# Altium schematic symbol library Capacitors.SchLib: 18 symbols
Pins are listed as number, name and electrical type; pins without a type are passive.

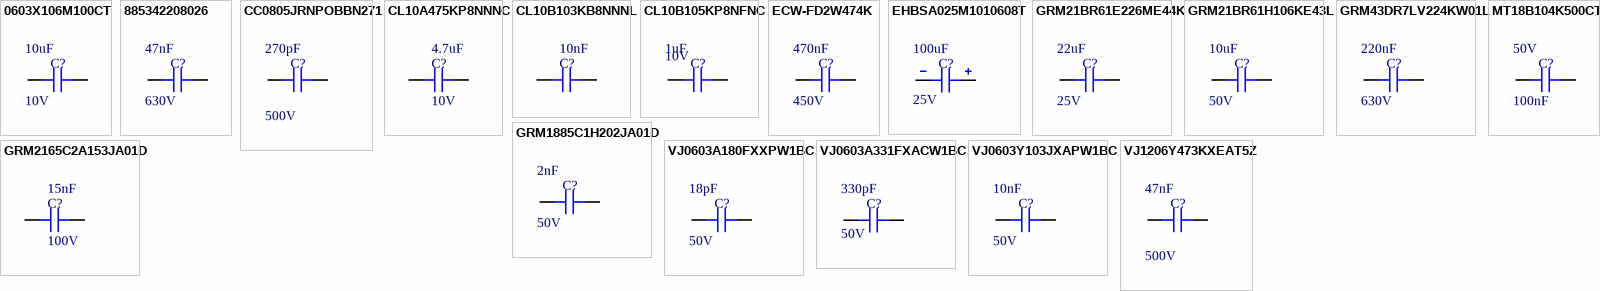
[diagram p0: symbols 0603X106M100CT to VJ1206Y473KXEAT5Z]

## 0603X106M100CT
designator C?  Voltage Rating: 10V  Capacitance: 10uF  (hidden comment: *)
10 µF ±20% 10V Ceramic Capacitor X5R 0603 (1608 Metric); Dielectric: X5R; Tolerance: 20%
footprint 0603 (0603 footprint for various passives)
pins: 1, 2

## 885342208026
designator C?  Voltage Rating: 630V  Capacitance: 47nF  (hidden comment: *)
0.047 µF ±10% 630V Ceramic Capacitor X7R 1206 (3216 Metric); Dielectric: X7R; Tolerance: 10%
footprint 1206 (1206 footprint for passives, imperial)
pins: 1, 2

## CC0805JRNPOBBN271
designator C?  Voltage Rating: 500V  Capacitance: 270pF  (hidden comment: *)
270 pF ±5% 500V Ceramic Capacitor C0G, NP0 0805 (2012 Metric); Dielectric: C0G (NP0); Tolerance: 5%
footprint 0805
pins: 1, 2

## CL10A475KP8NNNC
designator C?  Voltage Rating: 10V  Capacitance: 4.7uF  (hidden comment: *)
4.7 µF ±10% 10V Ceramic Capacitor X5R 0603 (1608 Metric); Dielectric: X5R; Tolerance: 10%
footprint 0603
pins: 1, 2

## CL10B103KB8NNNL
designator C?  Voltage Rating: 50V  Capacitance: 10nF  (hidden comment: *)
10000 pF ±10% 50V Ceramic Capacitor X7R 0603 (1608 Metric); Tolerance: 10%; Dielectric: X7R
footprint 0603 (0603 footprint for various passives)
pins: 1, 2

## CL10B105KP8NFNC
designator C?  Voltage Rating: 10V  Capacitance: 1uF  (hidden comment: *)
1 µF ±10% 10V Ceramic Capacitor X7R 0603 (1608 Metric); Dielectric: X7R; Tolerance: 10%
footprint 0603 (0603 footprint for various passives)
pins: 1, 2

## ECW-FD2W474K
designator C?  Voltage Rating: 450V  Capacitance: 470nF  (hidden comment: *)
0.47 µF Film Capacitor 450V Polypropylene (PP), Metallized Radial; Tolerance: 10%; Dielectric: PP
footprint 15mm Film Capacitor
pins: 1, 2

## EHBSA025M1010608T
designator C?  Voltage Rating: 25V  Capacitance: 100uF  (hidden comment: *)
100 µF 25 V Aluminum - Polymer Capacitors Radial, Can - SMD 30mOhm 4000 Hrs @ 125°C; Dielectric: AOP; Tolerance: 20%
footprint 0608 (6.3mm Diameter Aluminum Polymer Cap)
pins: 1, 2

## GRM21BR61E226ME44K
designator C?  Voltage Rating: 25V  Capacitance: 22uF  (hidden comment: *)
22 µF ±20% 25V Ceramic Capacitor X5R 0805 (2012 Metric); Dielectric: X5R; Tolerance: 20%
footprint 0805 (Footprint for various 0805 passives)
pins: 1, 2

## GRM21BR61H106KE43L
designator C?  Voltage Rating: 50V  Capacitance: 10uF  (hidden comment: *)
10 µF ±10% 50V Ceramic Capacitor X5R 0805 (2012 Metric); Dielectric: X5R; Tolerance: 10%
footprint 0805 (Footprint for various 0805 passives)
pins: 1, 2

## GRM43DR7LV224KW01L
designator C?  Voltage Rating: 630V  Capacitance: 220nF  (hidden comment: *)
0.22 µF ±10% 630V Ceramic Capacitor X7R 1812 (4532 Metric); Dielectric: X7R; Tolerance: 10%
pins: 1, 2

## GRM1885C1H202JA01D
designator C?  Voltage Rating: 50V  Capacitance: 2nF  (hidden comment: *)
2000 pF ±5% 50V Ceramic Capacitor C0G, NP0 0603 (1608 Metric); Dielectric: C0G (NP0); Tolerance: 5%
footprint 0603 (0603 footprint for various passives)
pins: 1, 2

## GRM2165C2A153JA01D
designator C?  Voltage Rating: 100V  Capacitance: 15nF  (hidden comment: *)
0.015 µF ±5% 100V Ceramic Capacitor C0G, NP0 0805 (2012 Metric); Dielectric: C0G (NP0); Tolerance: 5%
footprint 0805
pins: 1, 2

## MT18B104K500CT
designator C?  Voltage Rating: 50V  Capacitance: 100nF  (hidden comment: *)
0.1 µF ±10% 50V Ceramic Capacitor X7R 0603 (1608 Metric); Dielectric: X7R; Tolerance: 10%
footprint 0603 (0603 footprint for various passives)
pins: 1, 2

## VJ0603A180FXXPW1BC
designator C?  Voltage Rating: 50V  Capacitance: 18pF  (hidden comment: *)
18 pF ±1% 25V Ceramic Capacitor C0G, NP0 0603 (1608 Metric); Dielectric: C0G (NP0); Tolerance: 1%
footprint 0603 (0603 footprint for various passives)
pins: 1, 2

## VJ0603A331FXACW1BC
designator C?  Voltage Rating: 50V  Capacitance: 330pF  (hidden comment: *)
330 pF ±1% 50V Ceramic Capacitor C0G, NP0 0603 (1608 Metric); Dielectric: C0G (NP0); Tolerance: 1%
footprint 0603 (0603 footprint for various passives)
pins: 1, 2

## VJ0603Y103JXAPW1BC
designator C?  Voltage Rating: 50V  Capacitance: 10nF  (hidden comment: *)
10000 pF ±5% 50V Ceramic Capacitor X7R 0603 (1608 Metric); Dielectric: X7R; Tolerance: 5%
pins: 1, 2

## VJ1206Y473KXEAT5Z
designator C?  Voltage Rating: 500V  Capacitance: 47nF  (hidden comment: *)
Multilayer Ceramic Capacitors MLCC - SMD/SMT 1206 .047uF 500volts X7R 10%; Dielectric: X7R; Tolerance: 10%
footprint 1206 (1206 footprint for passives, imperial)
pins: 1, 2